# Altium schematic symbol library STM32F407_Board.SCHLIB: 166 symbols (part 2 of 3)
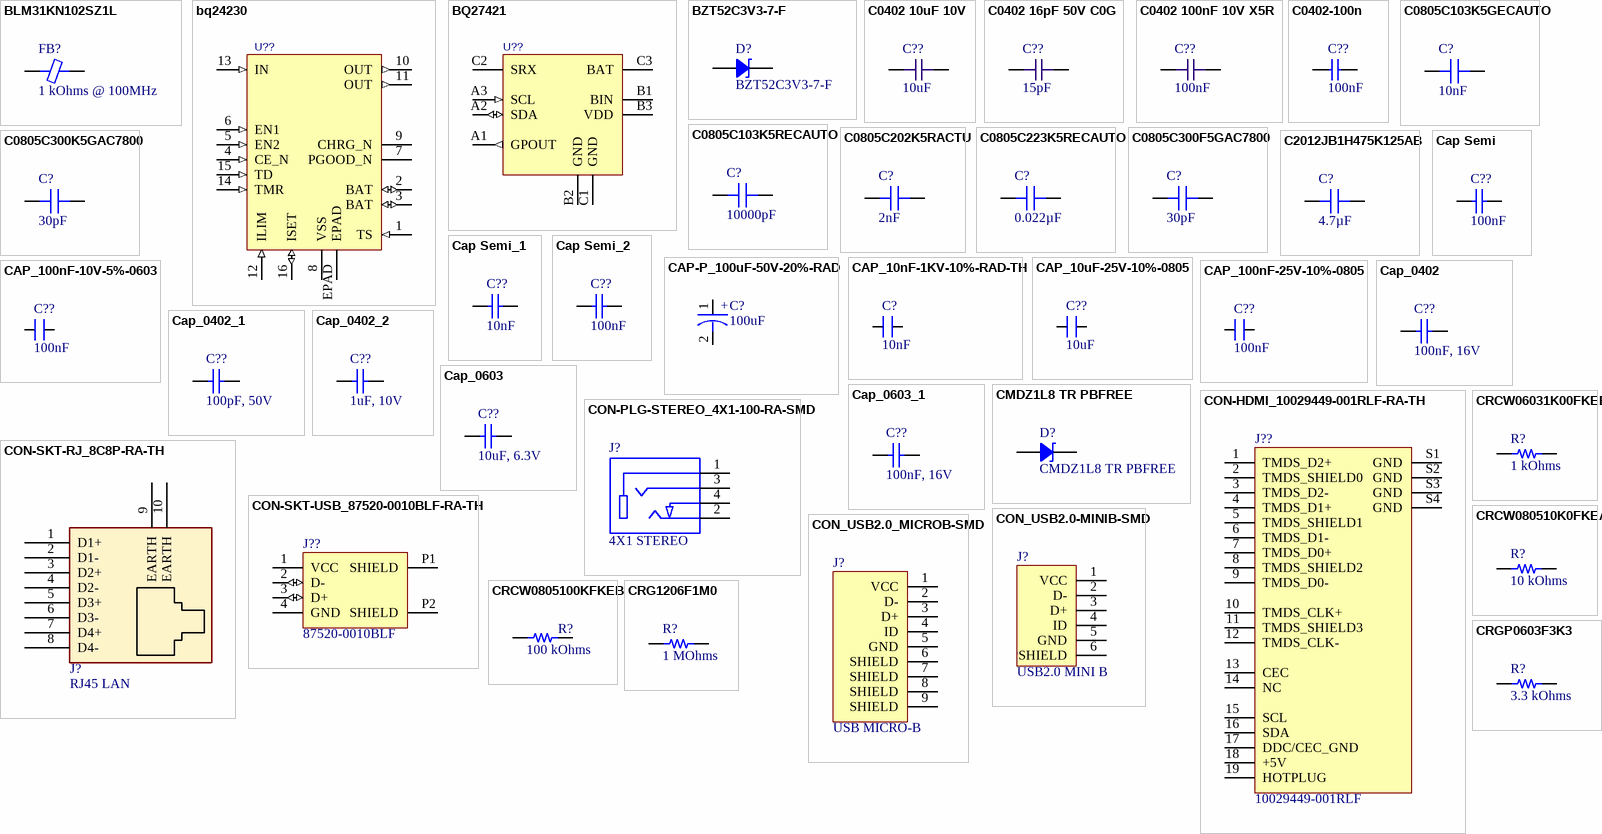
[diagram p5: symbols BLM31KN102SZ1L to CRGP0603F3K3]

## Cap Semi
designator C??, comment 100nF
0.10µF 50V Ceramic Capacitor X7R 0603; Manufacturer Part Number: CL10B104KB8SFNC; Value: 100nF; Digi-Key Part Number: 1276-1936-1-ND
footprint C1206 (Chip Capacitor, Body 3.2x1.6mm, IPC High Density)
footprint 0402 (Chip Capacitor, Body 1.0x0.5mm, IPC High Density)
footprint C2512 (Chip Capacitor, Body 2.54x1.27mm, IPC High Density)
footprint 0402 (Chip Capacitor, Body 1.0x0.5mm, IPC High Density)
footprint C1210 (Chip Capacitor, Body 3.2x2.5mm, IPC High Density)
simulation model CAP (Semiconductor Capacitor)
signal-integrity model Cap Semi
footprint 1608[0603] (Chip Capacitor, Body 1.6x0.8mm, IPC High Density)
footprint C0402
footprint c0603
pins: 1, 2

## Cap Semi_1
designator C??, comment 10nF
10000pF 50V Ceramic Capacitor X7R 0603; Manufacturer Part Number: CL10B103KB8NCNC; Published: 8-Jun-2000; LatestRevisionDate: 29-May-2009; LatestRevisionNote: IPC-7351 Footprint Added.; PackageReference: C1206; Publisher: Altium Limited; PackageDescription: Chip Capacitor; Value: 10nF; Digi-Key Part Number: 1276-1921-1-ND
footprint C0603
footprint 0402 (Chip Capacitor, Body 1.0x0.5mm, IPC High Density)
footprint C2512 (Chip Capacitor, Body 2.54x1.27mm, IPC High Density)
footprint 0402 (Chip Capacitor, Body 1.0x0.5mm, IPC High Density)
footprint C1210 (Chip Capacitor, Body 3.2x2.5mm, IPC High Density)
simulation model CAP (Semiconductor Capacitor)
signal-integrity model Cap Semi
footprint C0805
footprint C0402
pins: 1, 2

## Cap Semi_2
designator C??, comment 100nF
0.10µF 50V Ceramic Capacitor X7R 0603; Manufacturer Part Number: CL10B104KB8SFNC; Value: 100nF; Digi-Key Part Number: 1276-1936-1-ND
footprint C0603
footprint 0402 (Chip Capacitor, Body 1.0x0.5mm, IPC High Density)
footprint C2512 (Chip Capacitor, Body 2.54x1.27mm, IPC High Density)
footprint 0402 (Chip Capacitor, Body 1.0x0.5mm, IPC High Density)
footprint C1210 (Chip Capacitor, Body 3.2x2.5mm, IPC High Density)
simulation model CAP (Semiconductor Capacitor)
signal-integrity model Cap Semi
footprint C0805
footprint C0402
pins: 1, 2

## CAP-P_100uF-50V-20%-RAD
designator C?, comment 100uF
Cap, Aec-Q200, 100Uf, 50V, Alu Elec, Smd Rohs Compliant: Yes; Manufacturer: KEMET; Manufacturer Part Number: A768MS107M1HLAV024; Pricing 1: 2500=1.10647 (USD); Supplier 1: Digi-Key; Supplier Part Number 1: C317C622F5G5TA7301-ND
footprint ACAP_P305_D393_H393_RAD (Aluminium Capacitor)
pins: 1, 2
text: +

## CAP_10nF-1KV-10%-RAD-TH
designator C?, comment 10nF
Cap Ceramic 0.001uF 1000V X7R 10% Radial 5mm 125°C Bulk; Manufacturer: Murata; Manufacturer Part Number: RDER73A102K2K1H03B; Capacitance: 1nF; Voltage Rating: 1kV; Lead/Base Style: Formed Leads; Lead Diameter: 0.5mm; Supplier 1: Digi-Key; RoHS: Yes; Category: Ceramic Capacitors; Stock 1: 6888; Pricing 1: 1=0.75000, 10=0.53200, 50=0.40220, 100=0.35030, 500=0.25946, 1000=0.22055, 2500=0.20758, 5000=0.19460 (USD); Mount: Through Hole; Case/Package: Radial; Min Operating Temperature: -55°C; Max Operating Temperature: 125°C; Package Quantity: 500; Packaging: Bulk; Tolerance: 10%; Dielectric: X7R; Termination: Radial; Resistor Type: Ceramic; Voltage Rating (DC): 1kV; Length: 5.5mm; Width: 0.124inch; Height: 4mm; Height - Seated (Max): 0.157inch; Lead Pitch: 0.197inch; Lead Free: Lead Free; RoHS Compliant: Yes; ComponentLink1URL: https://datasheet.ciiva.com/29539/product-29539129.pdf?src-supplier=Digi-Key; ComponentLink1Description: https://datasheet.ciiva.com/29539/product-29539129.pdf?src-supplier=Digi-Key; Supplier Part Number 1: 490-8942-ND
footprint CAP_P196_102X287_H332_RAD_TH
pins: 1, 2

## CAP_10uF-25V-10%-0805
designator C??, comment 10uF
10µF ±10% 25V Ceramic Capacitor X5R 0805 (2012 Metric); Manufacturer: Murata Electronics; Manufacturer Part Number: GRM21BR61E106KA73K; Case/Package: 0805; Supplier-1: Digikey
footprint CAP_0805 (Ceramic Capacitor)
pins: 1, 2

## CAP_100nF-10V-5%-0603
designator C??, comment 100nF
0.1µF ±10% 10V Ceramic Capacitor X7R 0603 (1608 Metric); Manufacturer: Yageo; Manufacturer Part Number: CC0603KRX7R6BB104; Case/Package: 0603; Supplier-1: Digikey
footprint CAP_0603 (Capacitor)
pins: 1, 2

## CAP_100nF-25V-10%-0805
designator C??, comment 100nF
0.1µF ±10% 25V Ceramic Capacitor X7R 0805 (2012 Metric); Manufacturer: Yageo; Manufacturer Part Number: CC0805KRX7R8BB104; Case/Package: 0805; Supplier-1: Digikey
footprint CAP_0805 (Ceramic Capacitor)
pins: 1, 2

## Cap_0402
designator C??, comment 100nF, 16V
Manufacturer: Murata Electronics; Manufacturer Part Number: GRM155R71C104KA88D; Part Description: CAP CER 0.1UF 16V X7R 0402; Tolerance: 10 %; Type: General Purpose MLCC; Capacitance: 0.1 uF; Case Length: 1 mm; Dielectric: X7R; Case Height: 0.5 mm; Temperature Coefficient / Code: +/- 15 %; Value: 100nF, 16V; Supplier 1: Mouser; Supplier Part Number 1: 81-GRM155R71C104KA88; Case Code - in: 0402; RoHS: RoHS Compliant; Operating Temperature Range: - 55 C to + 125 C; Series: GRM; Termination Style: SMD/SMT; Package / Case: 0402 (1005 metric); Voltage Rating DC: 16 V; Maximum Operating Temperature: + 125 C; Case Code - mm: 1005; Minimum Operating Temperature: - 55 C; Product Category: Low & Medium Capacitance SMD Ceramic Chip Capacitors; Packaging: Reel; Product: General Type MLCCs; Category: Multilayer Ceramic Capacitors MLCC - SMD/SMT; Brand: Murata Electronics; Case Width: 0.5 mm; RoHS - Mouser: Y; Standard Pack Qty: 10000; Minimum Order Quantity: 1; Reeling: True; Manufacturer Part Number 1: GRM155R71C104KA88D
footprint CAP0402 (Chip Capacitor, Body 1.0x0.5mm, 0402, IPC Medium Density)
pins: 1, 2

## Cap_0402_1
designator C??, comment 100pF, 50V
Manufacturer Part Number 1: CC0402JRNPO9BN101; Manufacturer: Yageo; Part Description: 100pF ±5% 50V C0G, NP0 Ceramic Capacitor -55°C ~ 125°C Surface Mount, MLCC 0402 (1005 Metric) 0.039" L x 0.020" W (1.00mm x 0.50mm); Tolerance: ±5%; Temperature Coefficient: C0G, NP0; Value: 100pF, 50V; Capacitance: 100pF; Thickness (Max): 0.022" (0.55mm); Size / Dimension: 0.039" L x 0.020" W (1.00mm x 0.50mm); RoHS: RoHS Compliant; Ratings: -; Package / Case: 0402 (1005 Metric); Mounting Type: Surface Mount, MLCC; Height - Seated (Max): -; Features: -; Lead Spacing: -; Voltage - Rated: 50V; Operating Temperature: -55°C ~ 125°C; Packaging: Cut Tape (CT); Applications: General Purpose; Lead Style: -; Supplier 1: Digi-Key; Category: Capacitors; Supplier Part Number 1: 311-1024-1-ND
footprint CAP0402 (Chip Capacitor, Body 1.0x0.5mm, 0402, IPC Medium Density)
pins: 1, 2

## Cap_0402_2
designator C??, comment 1uF, 10V
CAP CER 1UF 10V X5R 0402; Manufacturer: Yageo; Part Description: 1µF 10V Ceramic Capacitor X5R 0402 (1005 Metric) 0.039" L x 0.020" W (1.00mm x 0.50mm); Manufacturer Part Number 1: CC0402MRX5R6BB105; Notification: Current market demand for these product types have resulted in fluctuating and extending lead times. Lead times may differ.; Tolerance: ±20%; Value: 1uF, 10V; Supplier 1: Digi-Key; Supplier Part Number 1: 311-1732-1-ND; RoHS: RoHS Compliant; Applications: General Purpose; Category: Capacitors; ComponentLink1Description: http://www.yageo.com/documents/recent/UPY-GPHC_X5R_4V-to-50V_25.pdf; ComponentLink1URL: http://www.yageo.com/documents/recent/UPY-GPHC_X5R_4V-to-50V_25.pdf; Failure Rate: -; Features: -; Height - Seated (Max): -; Lead Spacing: -; Lead Style: -; Mounting Type: Surface Mount, MLCC; Operating Temperature: -55°C ~ 85°C; Package / Case: 0402 (1005 Metric); Packaging: Cut Tape (CT); Part Status: Active; Pricing 1: 1=0.22, 10=0.156, 100=0.0732, 500=0.0513, 1000=0.04248, 2500=0.03953, 5000=0.03617 (USD); Ratings: -; Size / Dimension: 0.039" L x 0.020" W (1.00mm x 0.50mm); Stock 1: 69600; Temperature Coefficient: X5R; Thickness (Max): 0.022" (0.55mm); Voltage - Rated: 10V
footprint CAP0402 (Chip Capacitor, Body 1.0x0.5mm, 0402, IPC Medium Density)
pins: 1, 2

## Cap_0603
designator C??, comment 10uF, 6.3V
Manufacturer Part Number 1: CC0603MRX5R5BB106; Manufacturer: Yageo; Part Description: 10µF ±20% 6.3V X5R Ceramic Capacitor -55°C ~ 85°C Surface Mount, MLCC 0603 (1608 Metric) 0.063" L x 0.031" W (1.60mm x 0.80mm); Capacitance: 10µF; Tolerance: ±20%; Supplier 1: Digi-Key; Supplier Part Number 1: 311-1448-2-ND; Package / Case: 0603 (1608 Metric); Category: Capacitors; Voltage - Rated: 6.3V; Value: 10uF, 6.3V
footprint CAP0603 (Chip Capacitor, Body 1.6x0.8mm, 0603, IPC Medium Density)
pins: 1, 2

## Cap_0603_1
designator C??, comment 100nF, 16V
Manufacturer Part Number 1: GRM155R71C104KA88D; Part Description: CAP CER 0.1UF 16V X7R 0402; Brand: Murata Electronics; Tolerance: 10 %; Type: General Purpose MLCC; Capacitance: 0.1 uF; Temperature Coefficient / Code: +/- 15 %; Case Height: 0.5 mm; Case Length: 1 mm; Dielectric: X7R; Supplier 1: Mouser; Supplier Part Number 1: 81-GRM155R71C104KA88; Case Code - in: 0402; Manufacturer: Murata Electronics; Category: Multilayer Ceramic Capacitors MLCC - SMD/SMT; Voltage Rating DC: 16 V; Value: 100nF, 16V; Manufacturer Part Number: GRM155R71C104KA88D; Case Code - mm: 1005; Case Width: 0.5 mm; Maximum Operating Temperature: + 125 C; Minimum Operating Temperature: - 55 C; Minimum Order Quantity: 1; Operating Temperature Range: - 55 C to + 125 C; Package / Case: 0402 (1005 metric); Packaging: Reel; Product: General Type MLCCs; Product Category: Low & Medium Capacitance SMD Ceramic Chip Capacitors; Reeling: True; RoHS - Mouser: Y; RoHS: RoHS Compliant; Series: GRM; Standard Pack Qty: 10000; Termination Style: SMD/SMT
footprint CAP0402 (Chip Capacitor, Body 1.0x0.5mm, 0402, IPC Medium Density)
pins: 1, 2

## CMDZ1L8 TR PBFREE
designator D?
DIODE ZENER 1.8V 250MW SOD323; Manufacturer: Central Semiconductor Corp; Current - Reverse Leakage @ Vr: 25µA @ 1V; Impedance (Max) (Zzt): 1.2 kOhms; Tolerance: ±5%; Voltage - Forward (Vf) (Max) @ If: 900mV @ 10mA; Part Number: CMDZ1L8 TR PBFREE; ComponentLink1Description: Datasheet; ComponentLink1URL: https://my.centralsemi.com/get_document.php?cmp=1&mergetype=pd&mergepath=pd&pdf_id=CMDZ5L1-36L.PDF; ComponentLink2Description: DigiKey Link; ComponentLink2URL: http://digikey.com/product-detail/en/central-semiconductor-corp/CMDZ1L8-TR-PBFREE/1514-CMDZ1L8TRPBFREECT-ND/5324426; LastUpdated: 9/2/2020 01:27:30; Lifecycle Status: Active; Minimum Order: 1; Mounting Type: Surface Mount; Operating Temperature: -65°C ~ 150°C; Package / Case: SC-76, SOD-323; Packaging: TapeAndReel; PartId: 3515; Part Status: Active; Power - Max: 250mW; Price: 0.10; Series: -; Supplier 1: DigiKey; Supplier Part Number 1: 1514-CMDZ1L8TRPBFREECT-ND; Supplier Device Package: SOD-323; Voltage - Zener (Nom) (Vz): 1.8V
footprint SOD323
pins: 1, 2

## CON-HDMI_10029449-001RLF-RA-TH
designator J??, comment 10029449-001RLF
HDMI HDMI 1.4 Receptacle Connector 19 Position Surface Mount, Right Angle; Through Hole; Manufacturer: Amphenol ICC (FCI); Manufacturer Part Number: 10029449-001RLF; Case/Package: TH; Supplier-1: Digikey
footprint CON19_19.6_10029449-001RLF_TH_RA (HDMI Connector)
pins: 1 TMDS_D2+, 2 TMDS_SHIELD0, 3 TMDS_D2-, 4 TMDS_D1+, 5 TMDS_SHIELD1, 6 TMDS_D1-, 7 TMDS_D0+, 8 TMDS_SHIELD2, 9 TMDS_D0-, 10 TMDS_CLK+, 11 TMDS_SHIELD3, 12 TMDS_CLK-, 13 CEC, 14 NC, 15 SCL, 16 SDA, 17 DDC/CEC_GND, 18 +5V, 19 HOTPLUG, S1 GND, S2 GND, S3 GND, S4 GND

## CON-PLG-STEREO_4X1-100-RA-SMD
designator J?, comment 4X1 STEREO
2.50mm (0.094", 3/32", Sub Mini, Miniature) - Headphone Phone Jack Stereo (4 Conductor, TRRS) Connector Solder; Manufacturer: CUI Devices; Manufacturer Part Number: SJ-2504A-SMT-TR; Alternate Part Number-1: NA; Case/Package: SMD; Supplier Part Number-1: CP-SJ-2504A-SMT-CT-ND - Cut Tape (CT); Supplier-1: Digikey
footprint CON_SJ-2504A-SMT-TR_SMD
pins: 1, 2, 3, 4

## CON-SKT-RJ_8C8P-RA-TH
designator J?, comment RJ45 LAN
8 Pins, 2 Row 2.54mm Pitch, right angle Connector, male; Manufacturer: Assmann; Manufacturer Part Number: A-2004-2-4-LPS-N-R; Alternate Part Number-1: NA; Case/Package: TH-CON; Supplier-1: SP ROAD; Supplier Part Number-1: A-2004-2-4-LPS-N-R
footprint CON10_P106_RJ45_TH_ST (LAN Connector)
pins: 1 D1+, 2 D1-, 3 D2+, 4 D2-, 5 D3+, 6 D3-, 7 D4+, 8 D4-, 9 EARTH, 10 EARTH

## CON-SKT-USB_87520-0010BLF-RA-TH
designator J??, comment 87520-0010BLF
USB-A (USB TYPE-A) USB 2.0 Receptacle Connector 4 Position Through Hole, Right Angle; Manufacturer: Amphenol ICC (FCI); Manufacturer Part Number: 87520-0010BLF; Case/Package: TH; Supplier-1: Digikey
footprint CON4_614004134726_TH
pins: 1 VCC (power), 2 D- (io), 3 D+ (io), 4 GND (power), P1 SHIELD, P2 SHIELD

## CON_USB2.0-MINIB-SMD
designator J?, comment USB2.0 MINI B
Conn Mini USB 2.0 Type B RCP 5 POS 0.8mm Solder RA SMD 5 Terminal 1 Port; Manufacturer: EDAC; Manufacturer Part Number: 690-005-299-043; Supplier 1: Digi-Key; Category: USB Connectors; Pricing 1: 1=0.65000, 10=0.60600, 25=0.54560, 50=0.48480, 100=0.46460, 250=0.42420, 500=0.40400 (USD); Mount: Surface Mount,Horizontal; Pitch: 0.8mm; ComponentLink1URL: https://datasheet.ciiva.com/29660/690-005-299-043-29660027.pdf?src-supplier=Digi-Key; ComponentLink1Description: https://datasheet.ciiva.com/29660/690-005-299-043-29660027.pdf?src-supplier=Digi-Key; ComponentLink2URL: https://datasheet.ciiva.com/30246/690-005-299-043-30246515.pdf?src-supplier=Onlinecomponents.com; ComponentLink2Description: https://datasheet.ciiva.com/30246/690-005-299-043-30246515.pdf?src-supplier=Onlinecomponents.com; ComponentLink3URL: https://datasheet.ciiva.com/29660/690-005-299-043-29660028.pdf?src-supplier=Digi-Key; ComponentLink3Description: https://datasheet.ciiva.com/29660/690-005-299-043-29660028.pdf?src-supplier=Digi-Key; ComponentLink4URL: https://datasheet.ciiva.com/29660/690-005-299-043-29660029.pdf?src-supplier=Digi-Key; ComponentLink4Description: https://datasheet.ciiva.com/29660/690-005-299-043-29660029.pdf?src-supplier=Digi-Key
footprint CON_690-005-299-043 (Footprint not found)
pins: 1 VCC, 2 D-, 3 D+, 4 ID, 5 GND, 6 SHIELD

## CON_USB2.0_MICROB-SMD
designator J?, comment USB MICRO-B
USB - micro B USB 2.0 Receptacle Connector 5 Position Surface Mount, Right Angle; Manufacturer: ICC; Manufacturer Part Number: 10118192-0001LF; Alternate Part Number-1: NA; Case/Package: USB MICRO-B SMD; Supplier-1: SUNROM; Supplier Part Number-1: MICRO USB
footprint CON_10118192-0001LF_SMD (Footprint not found)
pins: 1 VCC, 2 D-, 3 D+, 4 ID, 5 GND, 6 SHIELD, 7 SHIELD, 8 SHIELD, 9 SHIELD

## CRCW06031K00FKEB
designator R?, comment 1 kOhms
RES SMD 1K OHM 1% 1/10W 0603; Part Number: CRCW06031K00FKEB; Manufacturer: Vishay Dale; Power (Watts): 0.1W, 1/10W; Temperature Coefficient: ±100ppm/°C; Value: 1 kOhms; ComponentLink1Description: Datasheet; ComponentLink1URL: http://www.vishay.com/docs/20035/dcrcwe3.pdf; ComponentLink2Description: DigiKey Link; ComponentLink2URL: http://digikey.com/product-detail/en/vishay-dale/CRCW06031K00FKEB/541-2985-1-ND/6073628; Composition: Thick Film; Device Package: 0603 (1608 Metric); Features: Automotive AEC-Q200; Height - Seated (Max): 0.020" (0.50mm); LastUpdated: 9/2/2020 01:10:24; Lifecycle Status: Active; Minimum Order: 1; Number of Terminations: 2; Operating Temperature: -55°C ~ 155°C; Package / Case: 0603 (1608 Metric); Packaging: CutTape; PartId: 5123; Part Status: Active; Price: 0.10; Ratings: AEC-Q200; Resistance: 1 kOhms; Series: CRCW; Size / Dimension: 0.063" L x 0.033" W (1.60mm x 0.85mm); Supplier 1: DigiKey; Supplier Part Number 1: 541-2985-1-ND; Supplier Device Package: 0603; Tolerance: ±1%
footprint RES 0603_1608
pins: 1, 2

## CRCW080510K0FKEA
designator R?, comment 10 kOhms
RES SMD 10K OHM 1% 1/8W 0805; Part Number: CRCW080510K0FKEA; Manufacturer: Vishay Dale; Power (Watts): 0.125W, 1/8W; Temperature Coefficient: ±100ppm/°C; Value: 10 kOhms; ComponentLink1Description: Datasheet; ComponentLink1URL: http://www.vishay.com/docs/20035/dcrcwe3.pdf; ComponentLink2Description: DigiKey Link; ComponentLink2URL: http://digikey.com/product-detail/en/vishay-dale/CRCW080510K0FKEA/541-10.0KCCT-ND/1180897; Composition: Thick Film; Device Package: 0805 (2012 Metric); Features: Automotive AEC-Q200; Height - Seated (Max): 0.020" (0.50mm); LastUpdated: 02/09/2020 01:15:23; Lifecycle Status: Active; Minimum Order: 1; Number of Terminations: 2; Operating Temperature: -55°C ~ 155°C; Package / Case: 0805 (2012 Metric); Packaging: TapeAndReel; PartId: 28101; Part Status: Active; Price: 0.01; Ratings: AEC-Q200; Resistance: 10 kOhms; Series: CRCW; Size / Dimension: 0.079" L x 0.049" W (2.00mm x 1.25mm); Supplier 1: DigiKey; Supplier Part Number 1: 541-10.0KCCT-ND; Supplier Device Package: 0805; Tolerance: ±1%
footprint RES 0805_2012
pins: 1, 2

## CRCW0805100KFKEB
designator R?, comment 100 kOhms
RES SMD 100K OHM 1% 1/8W 0805; Part Number: CRCW0805100KFKEB; Manufacturer: Vishay Dale; Power (Watts): 0.125W, 1/8W; Temperature Coefficient: ±100ppm/°C; Value: 100 kOhms; ComponentLink1Description: Datasheet; ComponentLink1URL: http://www.vishay.com/docs/20035/dcrcwe3.pdf; ComponentLink2Description: DigiKey Link; ComponentLink2URL: http://digikey.com/product-detail/en/vishay-dale/CRCW0805100KFKEB/541-4318-1-ND/8565931; Composition: Thick Film; Device Package: 0805 (2012 Metric); Features: Automotive AEC-Q200; Height - Seated (Max): 0.020" (0.50mm); LastUpdated: 02/09/2020 01:15:19; Lifecycle Status: Active; Minimum Order: 1; Number of Terminations: 2; Operating Temperature: -55°C ~ 155°C; Package / Case: 0805 (2012 Metric); Packaging: TapeAndReel; PartId: 30012; Part Status: Active; Price: 0.01; Ratings: AEC-Q200; Resistance: 100 kOhms; Series: CRCW; Size / Dimension: 0.079" L x 0.049" W (2.00mm x 1.25mm); Supplier 1: DigiKey; Supplier Part Number 1: 541-4318-1-ND; Supplier Device Package: 0805; Tolerance: ±1%
footprint RES 0805_2012
pins: 1, 2

## CRG1206F1M0
designator R?, comment 1 MOhms
RES SMD 1M OHM 1% 1/4W 1206; Part Number: CRG1206F1M0; Manufacturer: TE Connectivity Passive Product; Power (Watts): 0.25W, 1/4W; Temperature Coefficient: ±100ppm/°C; ComponentLink1Description: Datasheet; ComponentLink1URL: https://www.te.com/commerce/DocumentDelivery/DDEController?Action=srchrtrv&DocNm=1773204&DocType=DS&DocLang=English; ComponentLink2Description: DigiKey Link; ComponentLink2URL: http://digikey.com/product-detail/en/te-connectivity-passive-product/CRG1206F1M0/A106072CT-ND/3477725; Composition: Thick Film; Device Package: 1206 (3216 Metric); Height - Seated (Max): 0.026" (0.65mm); LastUpdated: 02/09/2020 01:13:10; Lifecycle Status: Active; Minimum Order: 1; Number of Terminations: 2; Operating Temperature: -55°C ~ 155°C; Package / Case: 1206 (3216 Metric); Packaging: TapeAndReel; PartId: 26984; Part Status: Active; Price: 0.01; Resistance: 1 MOhms; Series: CRG, Neohm; Size / Dimension: 0.122" L x 0.061" W (3.10mm x 1.55mm); Supplier 1: DigiKey; Supplier Part Number 1: A106072CT-ND; Supplier Device Package: 1206; Tolerance: ±1%; Value: 1 MOhms
footprint RES 1206_3216
pins: 1, 2

## CRGP0603F3K3
designator R?, comment 3.3 kOhms
CRGP 0603 3K3 1%; Part Number: CRGP0603F3K3; Manufacturer: TE Connectivity Passive Product; Power (Watts): 0.25W, 1/4W; Temperature Coefficient: ±100ppm/°C; Value: 3.3 kOhms; ComponentLink1Description: Datasheet; ComponentLink1URL: https://www.te.com/commerce/DocumentDelivery/DDEController?Action=srchrtrv&DocNm=9-1773463-9&DocType=DS&DocLang=English; ComponentLink2Description: DigiKey Link; ComponentLink2URL: http://digikey.com/product-detail/en/te-connectivity-passive-product/CRGP0603F3K3/A130422CT-ND/8578254; Composition: Thick Film; Device Package: 0603 (1608 Metric); Features: Pulse Withstanding; Height - Seated (Max): 0.022" (0.55mm); LastUpdated: 02/09/2020 01:10:24; Lifecycle Status: Active; Minimum Order: 1; Number of Terminations: 2; Operating Temperature: -55°C ~ 155°C; Package / Case: 0603 (1608 Metric); Packaging: TapeAndReel; PartId: 5037; Part Status: Active; Price: 0.02; Resistance: 3.3 kOhms; Series: CRGP; Size / Dimension: 0.063" L x 0.031" W (1.60mm x 0.80mm); Supplier 1: DigiKey; Supplier Part Number 1: A130422CT-ND; Supplier Device Package: 0603; Tolerance: ±1%
footprint RES 0603_1608
pins: 1, 2

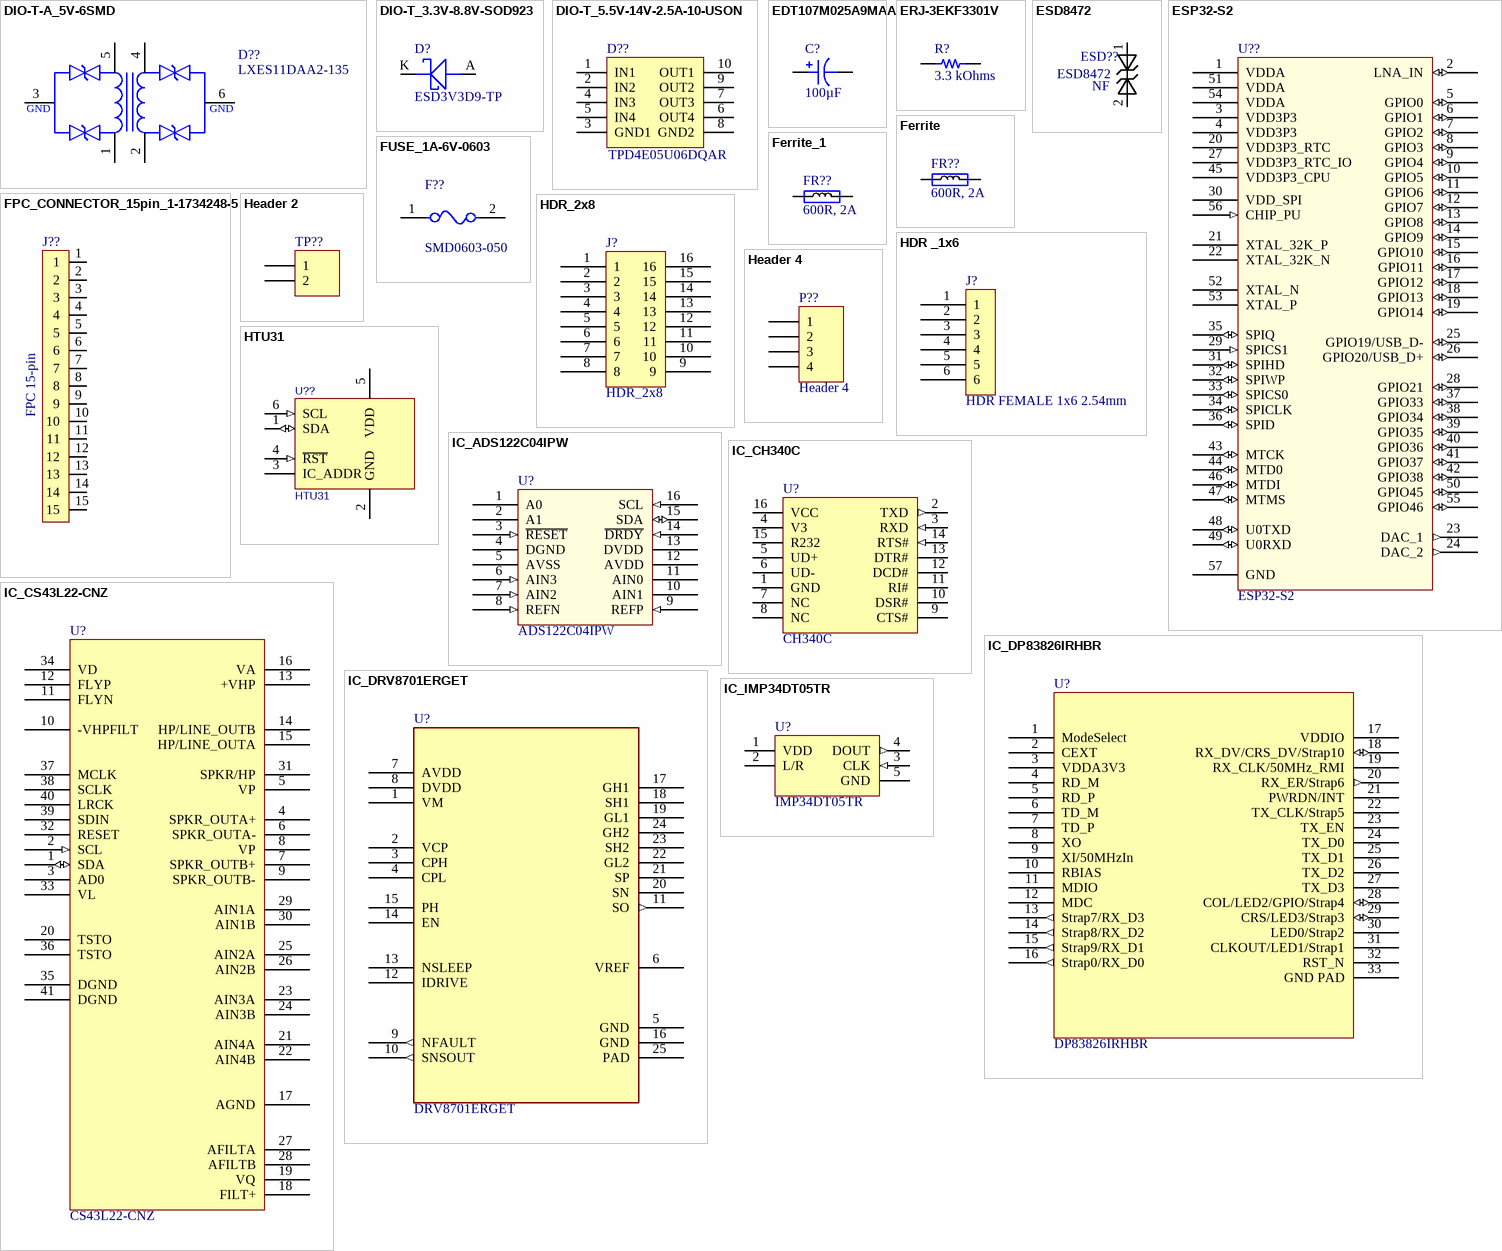
[diagram p2: symbols DIO-T-A_5V-6SMD to IC_IMP34DT05TR]

## DIO-T-A_5V-6SMD
designator D??, comment LXES11DAA2-135
Clamp Ipp Tvs Diode Surface Mount 10-SMD; Manufacturer: Murata Electronics; Manufacturer Part Number: LXES11DAA2-135; Case/Package: SMD-6; Supplier-1: Digikey
footprint DIO_LXES11D_SMD (TVS Diode)
pins: 1, 2, 3 5, 4, 5, 6
text: GND

## DIO-T_3.3V-8.8V-SOD923
designator D?, comment ESD3V3D9-TP
TVS DIODE 3.3V 8.8V SOD923; Manufacturer: MCC; Capacitance: 35pF; Current Rating: 10mA; Number of Unidirectional Channels: 1; Min Breakdown Voltage: 5V; Clamping Voltage: 5.8V; Peak Pulse Power: 100W; Power Line Protection: No; Peak Pulse Current: 5A; Diode Type: ZENER; Supplier 1: Digi-Key; Manufacturer Part Number: ESD3V3D9-TP; RoHS: Yes; Category: TVS Diodes; Stock 1: 2991; Pricing 1: 1=0.29000, 10=0.23600, 100=0.12540, 500=0.08250, 1000=0.05610, 2000=0.05060 (USD); Mount: Surface Mount; Min Operating Temperature: -55°C; Max Operating Temperature: 150°C; Package Quantity: 1; Packaging: Tape and Reel; Operating Supply Voltage: 3.3V; Reverse Standoff Voltage: 3.3V; Breakdown Voltage: 5V; Number of Channels: 1; Max Power Dissipation: 100W; Termination: SMD/SMT; Resistor Type: Zener; Series: -; Lead Free: Lead Free; RoHS Compliant: Yes; ComponentLink1URL: https://datasheet.ciiva.com/333/esd3v3d9sod-923-333173.pdf?src-supplier=Digi-Key; ComponentLink1Description: https://datasheet.ciiva.com/333/esd3v3d9sod-923-333173.pdf?src-supplier=Digi-Key; ComponentLink2URL: https://datasheet.ciiva.com/4479/esd3v3d9sod-923-36448-4479598.pdf?src-supplier=Mouser; ComponentLink2Description: https://datasheet.ciiva.com/4479/esd3v3d9sod-923-36448-4479598.pdf?src-supplier=Mouser; ComponentLink3URL: https://datasheet.ciiva.com/333/esd3v3d9sod-923-333174.pdf?src-supplier=Digi-Key; ComponentLink3Description: https://datasheet.ciiva.com/333/esd3v3d9sod-923-333174.pdf?src-supplier=Digi-Key; ComponentLink4URL: https://datasheet.ciiva.com/333/esd3v3d9sod-923-333175.pdf?src-supplier=Digi-Key; ComponentLink4Description: https://datasheet.ciiva.com/333/esd3v3d9sod-923-333175.pdf?src-supplier=Digi-Key; Supplier Part Number 1: ESD3V3D9-TPMSCT-ND
footprint DIO_SOD-923
pins: A, K

## DIO-T_5.5V-14V-2.5A-10-USON
designator D??, comment TPD4E05U06DQAR
14V Clamp 2.5A (8/20µs) Ipp Tvs Diode Surface Mount 10-USON (2.5x1); Manufacturer: Texas Instruments; Manufacturer Part Number: TPD4E05U06DQAR; Case/Package: 10-USON; Supplier-1: Digikey
footprint DIO_USON-10_SMD (ESD Diode)
pins: 1 IN1, 2 IN2, 3 GND1, 4 IN3, 5 IN4, 6 OUT4, 7 OUT3, 8 GND2, 9 OUT2, 10 OUT1

## EDT107M025A9MAA
designator C?, comment 100µF
CAP ALUM SMD 125C 100UF 25VDC; Part Number: EDT107M025A9MAA; Manufacturer: KEMET; Lifetime @ Temp.: 2000 Hrs @ 125°C; Polarization: Polar; Ripple Current @ High Frequency: 156mA @ 10kHz; Ripple Current @ Low Frequency: 130mA @ 120Hz; Surface Mount Land Size: 0.327" L x 0.327" W (8.30mm x 8.30mm); Tolerance: ±20%; Voltage - Rated: 25V; Applications: General Purpose; Capacitance: 100µF; ComponentLink1Description: Datasheet; ComponentLink1URL: https://api.kemet.com/component-edge/download/datasheet/EDT107M025A9MAA.pdf; ComponentLink2Description: DigiKey Link; ComponentLink2URL: http://digikey.com/product-detail/en/kemet/EDT107M025A9MAA/399-18156-1-ND/9354357; Device Package: Radial, Can - SMD; Height - Seated (Max): 0.413" (10.50mm); LastUpdated: 02/09/2020 01:25:14; Lifecycle Status: Active; Minimum Order: 1; Mounting Type: Surface Mount; Operating Temperature: -40°C ~ 125°C; Package / Case: Radial, Can - SMD; Packaging: TapeAndReel; PartId: 7637; Part Status: Active; Price: 0.23; Series: EDT; Size / Dimension: 0.315" Dia (8.00mm); Supplier 1: DigiKey; Supplier Part Number 1: 399-18156-1-ND; Value: 100µF
footprint CAP ALSMD 8.3MM H10.5MM
pins: 1, 2

## ERJ-3EKF3301V
designator R?, comment 3.3 kOhms
RES SMD 3.3K OHM 1% 1/10W 0603; Part Number: ERJ-3EKF3301V; Manufacturer: Panasonic Electronic Components; Power (Watts): 0.1W, 1/10W; Temperature Coefficient: ±100ppm/°C; Value: 3.3 kOhms; ComponentLink1Description: Datasheet; ComponentLink1URL: https://industrial.panasonic.com/cdbs/www-data/pdf/RDA0000/AOA0000C304.pdf; ComponentLink2Description: DigiKey Link; ComponentLink2URL: http://digikey.com/product-detail/en/panasonic-electronic-components/ERJ-3EKF3301V/P3.30KHCT-ND/1746762; Composition: Thick Film; Device Package: 0603 (1608 Metric); Features: Automotive AEC-Q200; Height - Seated (Max): 0.022" (0.55mm); LastUpdated: 9/2/2020 01:10:23; Lifecycle Status: Active; Minimum Order: 1; Number of Terminations: 2; Operating Temperature: -55°C ~ 155°C; Package / Case: 0603 (1608 Metric); Packaging: TapeAndReel; PartId: 5657; Part Status: Active; Price: 0.01; Ratings: AEC-Q200; Resistance: 3.3 kOhms; Series: ERJ; Size / Dimension: 0.063" L x 0.031" W (1.60mm x 0.80mm); Supplier 1: DigiKey; Supplier Part Number 1: P3.30KHCT-ND; Supplier Device Package: 0603; Tolerance: ±1%
footprint RES 0603_1608
pins: 1, 2

## ESD8472
designator ESD??  Assembly Info: NF
Manufacturer: ON Semiconductor; Manufacturer Part Number 1: ESD8472MUT5G; Part Description: TVS DIODE 5.3VWM 14VC X3DFN2; Voltage - Reverse Standoff (Typ): 5.3V (Max); Voltage - Breakdown (Min): 7V; Voltage - Clamping (Max) @ Ipp: 14V; Current - Peak Pulse (10/1000µs): 3A (8/20µs); Power Line Protection: No; Capacitance @ Frequency: 0.2pF @ 1MHz; Supplier 1: Digi-Key; RoHS: RoHS Compliant; Category: Circuit Protection; Stock 1: 2295; Pricing 1: 1=0.39, 10=0.315, 100=0.2142, 500=0.16068, 1000=0.12051 (USD); Packaging: Cut Tape (CT); Part Status: Active; Type: Zener; Power - Peak Pulse: -; Applications: Automotive, RF Antenna; Operating Temperature: -55°C ~ 150°C (TJ); Mounting Type: Surface Mount; Package / Case: 2-XFDFN; Supplier Device Package: 2-X3DFN (0.62x0.32); ComponentLink1URL: http://www.onsemi.com/pub/Collateral/ESD8472-D.PDF; ComponentLink1Description: http://www.onsemi.com/pub/Collateral/ESD8472-D.PDF; Supplier Part Number 1: ESD8472MUT5GOSCT-ND
footprint ESD8472_X3DFN2
pins: 1, 2

## ESP32-S2
designator U??
WiFi 802.11b/g/n Transceiver Module 2.4GHz QFN-56; Supplier 1: Digi-Key; Supplier 2: Mouser; Supplier Part Number 1: 1965-ESP32-S2CT-ND; Supplier Part Number 2: 356-ESP32-S2; Supplier 3: LCSC; Supplier Part Number 3: C529594
footprint QFN56 (QFN, 56-Leads, Body 7.00x7.00mm, Pitch 0.40mm, Thermal Pad 4.00x4.00mm, IPC Medium Density)
pins: 1 VDDA (power), 2 LNA_IN (io), 3 VDD3P3 (power), 4 VDD3P3 (power), 5 GPIO0 (io), 6 GPIO1 (io), 7 GPIO2 (io), 8 GPIO3 (io), 9 GPIO4 (io), 10 GPIO5 (io), 11 GPIO6 (io), 12 GPIO7 (io), 13 GPIO8 (io), 14 GPIO9 (io), 15 GPIO10 (io), 16 GPIO11 (io), 17 GPIO12 (io), 18 GPIO13 (io), 19 GPIO14 (io), 20 VDD3P3_RTC (power), 21 XTAL_32K_P, 22 XTAL_32K_N, 23 DAC_1 (out), 24 DAC_2 (out), 25 GPIO19/USB_D- (io), 26 GPIO20/USB_D+ (io), 27 VDD3P3_RTC_IO (power), 28 GPIO21 (io), 29 SPICS1 (in), 30 VDD_SPI (power), 31 SPIHD (io), 32 SPIWP (io), 33 SPICS0 (io), 34 SPICLK (io), 35 SPIQ (io), 36 SPID (io), 37 GPIO33 (io), 38 GPIO34 (io), 39 GPIO35 (io), 40 GPIO36 (io), 41 GPIO37 (io), 42 GPIO38 (io), 43 MTCK (io), 44 MTD0 (io), 45 VDD3P3_CPU (power), 46 MTDI (io), 47 MTMS (io), 48 U0TXD (io), 49 U0RXD (io), 50 GPIO45 (io), 51 VDDA (power), 52 XTAL_N, 53 XTAL_P, 54 VDDA (power), 55 GPIO46 (io), 56 CHIP_PU (in), 57 GND (power)

## Ferrite
designator FR??, comment 600R, 2A
Manufacturer Part Number 1: MPZ2012S601AT000; Manufacturer: TDK Corporation; Part Description: FERRITE BEAD 600 OHM 0805 1LN; DC Resistance (DCR): 100 mOhm Max; Filter Type: Differential Mode - Single; Impedance @ Frequency: 600 Ohm @ 100MHz; Supplier 1: Digi-Key; Supplier Part Number 1: 445-2206-2-ND; Value: 600R, 2A; Category: Filters; Current Rating: 2A; Height (Max): 0.041" (1.05mm); Mounting Type: Surface Mount; Package / Case: 0805 (2012 Metric); Packaging: Tape & Reel (TR); RoHS: RoHS Compliant; Size / Dimension: 0.079" L x 0.049" W (2.00mm x 1.25mm)
footprint RES0805 (Chip Resistor, Body 2.0x1.2mm, 0805, IPC Medium Density)
pins: 1, 2

## Ferrite_1
designator FR??, comment 600R, 2A
Manufacturer Part Number 1: MPZ2012S601AT000; Manufacturer: TDK Corporation; Part Description: FERRITE BEAD 600 OHM 0805 1LN; Filter Type: Differential Mode - Single; Impedance @ Frequency: 600 Ohm @ 100MHz; DC Resistance (DCR): 100 mOhm Max; Supplier 1: Digi-Key; Supplier Part Number 1: 445-2206-2-ND; Mounting Type: Surface Mount; RoHS: RoHS Compliant; Height (Max): 0.041" (1.05mm); Packaging: Tape & Reel (TR); Category: Filters; Current Rating: 2A; Package / Case: 0805 (2012 Metric); Size / Dimension: 0.079" L x 0.049" W (2.00mm x 1.25mm)
footprint RES0805 (Chip Resistor, Body 2.0x1.2mm, 0805, IPC Medium Density)
pins: 1, 2

## FPC_CONNECTOR_15pin_1-1734248-5
designator J??, comment FPC 15-pin
Manufacturer: TE Connectivity; Manufacturer Part Number 1: 1-1734248-5; Part Description: 15 Position FPC Connector Contacts, Vertical, 1 Sided 0.039" (1.00mm) Surface Mount; Current Rating: 1A; Voltage Rating: 125V; Gender: Receptacle; Number of Positions: 15; Shielding: Unshielded; Connector Type: Connector,Receptacle,Socket; Wire/Cable Type: Flat Flex; Connector System: Flex-to-Board; Mating Alignment: Yes (With); PCB Mount Alignment: No (Without); PCB Mount Retention: With; Circuit Application: Signal; Pitch: 1mm; Supplier 1: Digi-Key; Stock 1: 11808; Pricing 1: 1=1.03, 10=0.909, 25=0.8556, 50=0.82, 100=0.7843, 250=0.713, 500=0.6417 (USD); Mount: Surface Mount; Contact Plating: Gold; Contact Material: Bronze; Housing Colour: Black; Housing Material: Thermoplastic; Min Operating Temperature: -4°C; Max Operating Temperature: 185°C; Package Quantity: 1000; Packaging: Tape and Reel; Number of Rows: 1; Termination: SMD/SMT; Number of Contacts: 15; Orientation: Straight; Sealable: No (Without); Shrouded: Yes (With); Contact Current Rating: 1A; Length: 22.4mm; Height: 7.7mm; Width: 4.6mm; Depth: 4.6mm; REACH SVHC: Unknown; ELV: Compliant; Flammability Rating: UL94 V-0; Supplier Part Number 1: A101418DKR-ND
footprint FPC_CONNECTOR_15pin_1-1734248-5
pins: 1, 2, 3, 4, 5, 6, 7, 8, 9, 10, 11, 12, 13, 14, 15

## FUSE_1A-6V-0603
designator F??, comment SMD0603-050
6V 1A 0603 PTC Resettable Fuses RoHS; Manufacturer: TECHFUSE; Manufacturer Part Number: SMD0603-050; Case/Package: 0603; Supplier-1: LCSC
footprint RES_0603 (CASE: 0603)
pins: 1, 2

## HDR _1x6
designator J?, comment HDR FEMALE 1x6 2.54mm
06-WAY
footprint HDR_1x6_2.54mm
pins: 1, 2, 3, 4, 5, 6

## HDR_2x8
designator J?
CONN HDR FEMALE 16POS 0.1 GOLD PCB; Manufacturer: Sullins; Manufacturer Part Number: PPPC082LFBN-RC; Number of Positions: 16; Connector Type: Header; Pitch: 0.1inch; Supplier 1: Digi-Key; RoHS: Yes; Category: Connectors; Stock 1: 22838; Pricing 1: 1=1.03000, 10=0.90400, 100=0.78010, 500=0.63828, 1000=0.56736, 5000=0.51220 (USD); Mount: Through Hole; Color: Black; Contact Plating: Gold; Contact Material: Bronze; Housing Material: Plastic; Package Quantity: 1000; Number of Rows: 2; Packaging: Bulk; Termination: Solder; Contact Type: Female Socket; Length: 20.8mm; Width: 5mm; Height: 8.5mm; Row Spacing: 0.1inch; Lead Free: Lead Free; RoHS Compliant: Yes; ComponentLink1URL: https://media.digikey.com/pdf/Data%20Sheets/Sullins%20PDFs/Female_Headers.100_DS.pdf?src-supplier=Digi-Key; ComponentLink1Description: https://media.digikey.com/pdf/Data%20Sheets/Sullins%20PDFs/Female_Headers.100_DS.pdf?src-supplier=Digi-Key; ComponentLink2URL: http://www.sullinscorp.com/catalogs/101_Page80-81_HEADER_.100_2.54mm_FEMALE.pdf?src-supplier=Future+Electronics; ComponentLink2Description: http://www.sullinscorp.com/catalogs/101_Page80-81_HEADER_.100_2.54mm_FEMALE.pdf?src-supplier=Future+Electronics; Supplier Part Number 1: S7111-ND
footprint HDR_2x8
pins: 1, 2, 3, 4, 5, 6, 7, 8, 9, 10, 11, 12, 13, 14, 15, 16

## Header 2
designator TP??  (value not drawn)
Header, 2-Pin; LatestRevisionDate: 17-Jul-2002; LatestRevisionNote: Re-released for DXP Platform.; Publisher: Altium Limited
footprint HDR1X2 (Connector; Header; 2 Position)
signal-integrity model Connector
pins: 1, 2

## Header 4
designator P??
Header, 4-Pin; LatestRevisionDate: 17-Jul-2002; LatestRevisionNote: Re-released for DXP Platform.; Publisher: Altium Limited
footprint Soket_Siyah_Yakup_4_Pin
signal-integrity model Connector
pins: 1, 2, 3, 4

## HTU31
designator U??  Manufacturer Part Number 1: HTU31
SENSOR, Humidity, I2C, SMT, DFN-6 2.5mmX2.5mm; Manufacturer 1: TE Connectivity; Part Name: B39162B4353P810; Body Size: 1.4mm x 1.1mm; Current: None; Item Phase: In Production; MFG Package: QCS5P; Use in new designs: Yes; Part Number: HTU31; Height: 0.45mm; Max Operating Temp: 85; Min Operating Temp: -40; Pins: 5; Revision: 0A; Voltage: N/A; UBX Code: None
footprint HTU31 (6-DFN w/ Exposed Pad, 6 pin TE-Connectivity Humidity Sensor, .65mm pitch, 2.5mmX2.5mm)
pins: 1 SDA (io) "I2C Data Signal", 2 GND (power) "Ground", 3 IC_ADDR "Address Selection", 4 ~{RST} (in) "Active Low Reset Input", 5 VDD (power) "Power Supply", 6 SCL (in) "I2C Clock Signal"

## IC_ADS122C04IPW
designator U?, comment ADS122C04IPW
24 Bit Analog to Digital Converter 4 Input 1 Sigma-Delta 16-TSSOP; Manufacturer: Texas Instruments; Alternate Part Number-1: NA; Manufacturer Part Number: ADS122C04IPW; Case/Package: TSSOP16; Supplier-1: MOUSER; Supplier Part Number-1: ADS122C04IPW
footprint TSSOP16_25-59_294_54X14_SMT (TSOP, 16-Leads, Body 5.00x4.40mm, Pitch 0.65mm)
pins: 1 A0, 2 A1, 3 ~{RESET} (in), 4 DGND (power), 5 AVSS (power), 6 AIN3 (in), 7 AIN2 (in), 8 REFN (in), 9 REFP (in), 10 AIN1, 11 AIN0, 12 AVDD (power), 13 DVDD (power), 14 ~{DRDY} (in), 15 SDA (io), 16 SCL (in)

## IC_CH340C
designator U?, comment CH340C
USB Bridge, USB to UART USB 2.0 UART Interface; Manufacturer: Olimex; Alternate Part Number-1: NA; Manufacturer Part Number: CH340C; Case/Package: SOIC16; Supplier-1: LCSC; Supplier Part Number-1: C84681
footprint SOIC16_50_284_25X90_SMT
pins: 1 GND, 2 TXD (out), 3 RXD (in), 4 V3, 5 UD+, 6 UD-, 7 NC, 8 NC, 9 CTS#, 10 DSR#, 11 RI#, 12 DCD#, 13 DTR#, 14 RTS# (in), 15 R232, 16 VCC

## IC_CS43L22-CNZ
designator U?, comment CS43L22-CNZ
Audio D/A Converter ICs Low Power Stereo DAC w/ClassD Spkr Driver; Manufacturer: Cirrus Logic; Number of DAC Channels: 1; Resolution: 24b; Conversion Rate: 96KS/s; Output Type: Voltage; Max Supply Voltage: 2.63V; Min Supply Voltage: 1.65V; Interface: I2C,Serial; Sampling Rate: 96000S/s; Polarity: Bipolar; Supply Type: Analog,Digital; Operating Supply Voltage: 2.5V; Number of Bits: 24; Manufacturer Part Number: CS43L22-CNZ; RoHS: Yes; Category: Digital to Analog Converters (DACs); Pricing 1: 1=5.98000, 10=5.37400, 25=5.08000, 100=4.40270, 250=4.17692, 500=3.74794, 1000=3.19500 (USD); Mount: Surface Mount; Case/Package: QFN; Number of Pins: 40; Contact Plating: Tin,Matte; Min Operating Temperature: -40°C; Max Operating Temperature: 85°C; Package Quantity: 50; Packaging: Tray; Number of Converters: 1; Output Polarity: Bipolar; Series: -; Number of Channels: 1; Length: 6mm; Width: 6mm; Height: 0.95mm; RoHS Compliant: Yes; ComponentLink1URL: https://datasheet.ciiva.com/1494/91818-1494314.pdf?src-supplier=Element14; ComponentLink1Description: https://datasheet.ciiva.com/1494/91818-1494314.pdf?src-supplier=Element14; ComponentLink2URL: https://datasheet.ciiva.com/26802/cs43l22-cnz-26802243.pdf?src-supplier=IIIC; ComponentLink2Description: https://datasheet.ciiva.com/26802/cs43l22-cnz-26802243.pdf?src-supplier=IIIC; ComponentLink3URL: https://datasheet.ciiva.com/6665/cs43l22-f2-6665692.pdf?src-supplier=Digi-Key; ComponentLink3Description: https://datasheet.ciiva.com/6665/cs43l22-f2-6665692.pdf?src-supplier=Digi-Key; ComponentLink4URL: https://datasheet.ciiva.com/3040/cs43l22-f2-3040429.pdf?src-supplier=Avnet; ComponentLink4Description: https://datasheet.ciiva.com/3040/cs43l22-f2-3040429.pdf?src-supplier=Avnet; ComponentLink5URL: https://datasheet.ciiva.com/16606/cs43l22-f2-16606863.pdf?src-supplier=Avnet+Europe; ComponentLink5Description: https://datasheet.ciiva.com/16606/cs43l22-f2-16606863.pdf?src-supplier=Avnet+Europe; Supplier 1: Digi-Key; Supplier Part Number 1: 598-1650-ND
footprint QFN40_19_284_33X9_SMD
pins: 1 SDA (io), 2 SCL (in), 3 AD0, 4 SPKR_OUTA+, 5 VP, 6 SPKR_OUTA-, 7 SPKR_OUTB+, 8 VP, 9 SPKR_OUTB-, 10 -VHPFILT, 11 FLYN, 12 FLYP, 13 +VHP, 14 HP/LINE_OUTB, 15 HP/LINE_OUTA, 16 VA, 17 AGND, 18 FILT+, 19 VQ, 20 TSTO, 21 AIN4A, 22 AIN4B, 23 AIN3A, 24 AIN3B, 25 AIN2A, 26 AIN2B, 27 AFILTA, 28 AFILTB, 29 AIN1A, 30 AIN1B, 31 SPKR/HP, 32 RESET, 33 VL, 34 VD, 35 DGND, 36 TSTO, 37 MCLK, 38 SCLK, 39 SDIN, 40 LRCK, 41 DGND

## IC_DP83826IRHBR
designator U?, comment DP83826IRHBR
Ethernet MAC Controller IEEE 802.3, 10/100 Base-T/TX PHY MII, RMII Interface 32-VQFN (5x5); Manufacturer: Texas Instruments; Supplier 1: Digi-Key; Manufacturer Part Number: DP83826IRHBR; RoHS: Yes; Pricing 1: 1=2.14000, 10=1.91900, 25=1.81000, 100=1.54210, 250=1.44796, 500=1.26696, 1000=1.14061 (USD); Supplier Part Number 1: 296-DP83826IRHBRCT-ND
footprint VQFN32_19_218_23X9_SMD
pins: 1 ModeSelect, 2 CEXT, 3 VDDA3V3, 4 RD_M, 5 RD_P, 6 TD_M, 7 TD_P, 8 XO, 9 XI/50MHzIn, 10 RBIAS, 11 MDIO, 12 MDC, 13 Strap7/RX_D3 (out), 14 Strap8/RX_D2 (out), 15 Strap9/RX_D1 (out), 16 Strap0/RX_D0 (out), 17 VDDIO, 18 RX_DV/CRS_DV/Strap10 (io), 19 RX_CLK/50MHz_RMI, 20 RX_ER/Strap6 (out), 21 PWRDN/INT, 22 TX_CLK/Strap5, 23 TX_EN, 24 TX_D0, 25 TX_D1, 26 TX_D2, 27 TX_D3, 28 COL/LED2/GPIO/Strap4 (io), 29 CRS/LED3/Strap3 (io), 30 LED0/Strap2, 31 CLKOUT/LED1/Strap1, 32 RST_N, 33 GND PAD

## IC_DRV8701ERGET
designator U?, comment DRV8701ERGET
IC MOTOR DRIVER 0V-5.5V 24VQFN; Manufacturer: Texas Instruments; Supplier 1: Digi-Key; Manufacturer Part Number: DRV8701ERGET; Category: Integrated Circuits (ICs); Pricing 1: 1=2.52000, 10=2.26100, 25=2.13320, 100=1.81750 (USD); Mount: Surface Mount; Case/Package: VQFN; ComponentLink1URL: http://www.ti.com/general/docs/lit/getliterature.tsp?genericPartNumber=DRV8701&&fileType=pdf&src-supplier=Avnet; ComponentLink1Description: http://www.ti.com/general/docs/lit/getliterature.tsp?genericPartNumber=DRV8701&&fileType=pdf&src-supplier=Avnet; ComponentLink2URL: http://www.ti.com/lit/ds/symlink/drv8701.pdf?src-supplier=Digi-Key; ComponentLink2Description: http://www.ti.com/lit/ds/symlink/drv8701.pdf?src-supplier=Digi-Key
footprint QFN50P400X400X100-25N
pins: 1 VM, 2 VCP, 3 CPH, 4 CPL, 5 GND (power), 6 VREF, 7 AVDD (power), 8 DVDD (power), 9 NFAULT (out), 10 SNSOUT (out), 11 SO (out), 12 IDRIVE, 13 NSLEEP, 14 EN, 15 PH, 16 GND (power), 17 GH1, 18 SH1, 19 GL1, 20 SN, 21 SP, 22 GL2, 23 SH2, 24 GH2, 25 PAD (power)

## IC_IMP34DT05TR
designator U?, comment IMP34DT05TR
MEMS Microphones AUTO & INDUSTRIAL SENSORS; Manufacturer: STMicroelectronics; Alternate Part Number-1: NA; Manufacturer Part Number: IMP34DT05TR; Case/Package: HCLGA-4; Supplier-1: Mouser; Supplier Part Number-1: 511-IMP34DT05TR
footprint HCLGA-4_53_137_15X37_SMD
pins: 1 VDD, 2 L/R, 3 CLK (in), 4 DOUT (out), 5 GND

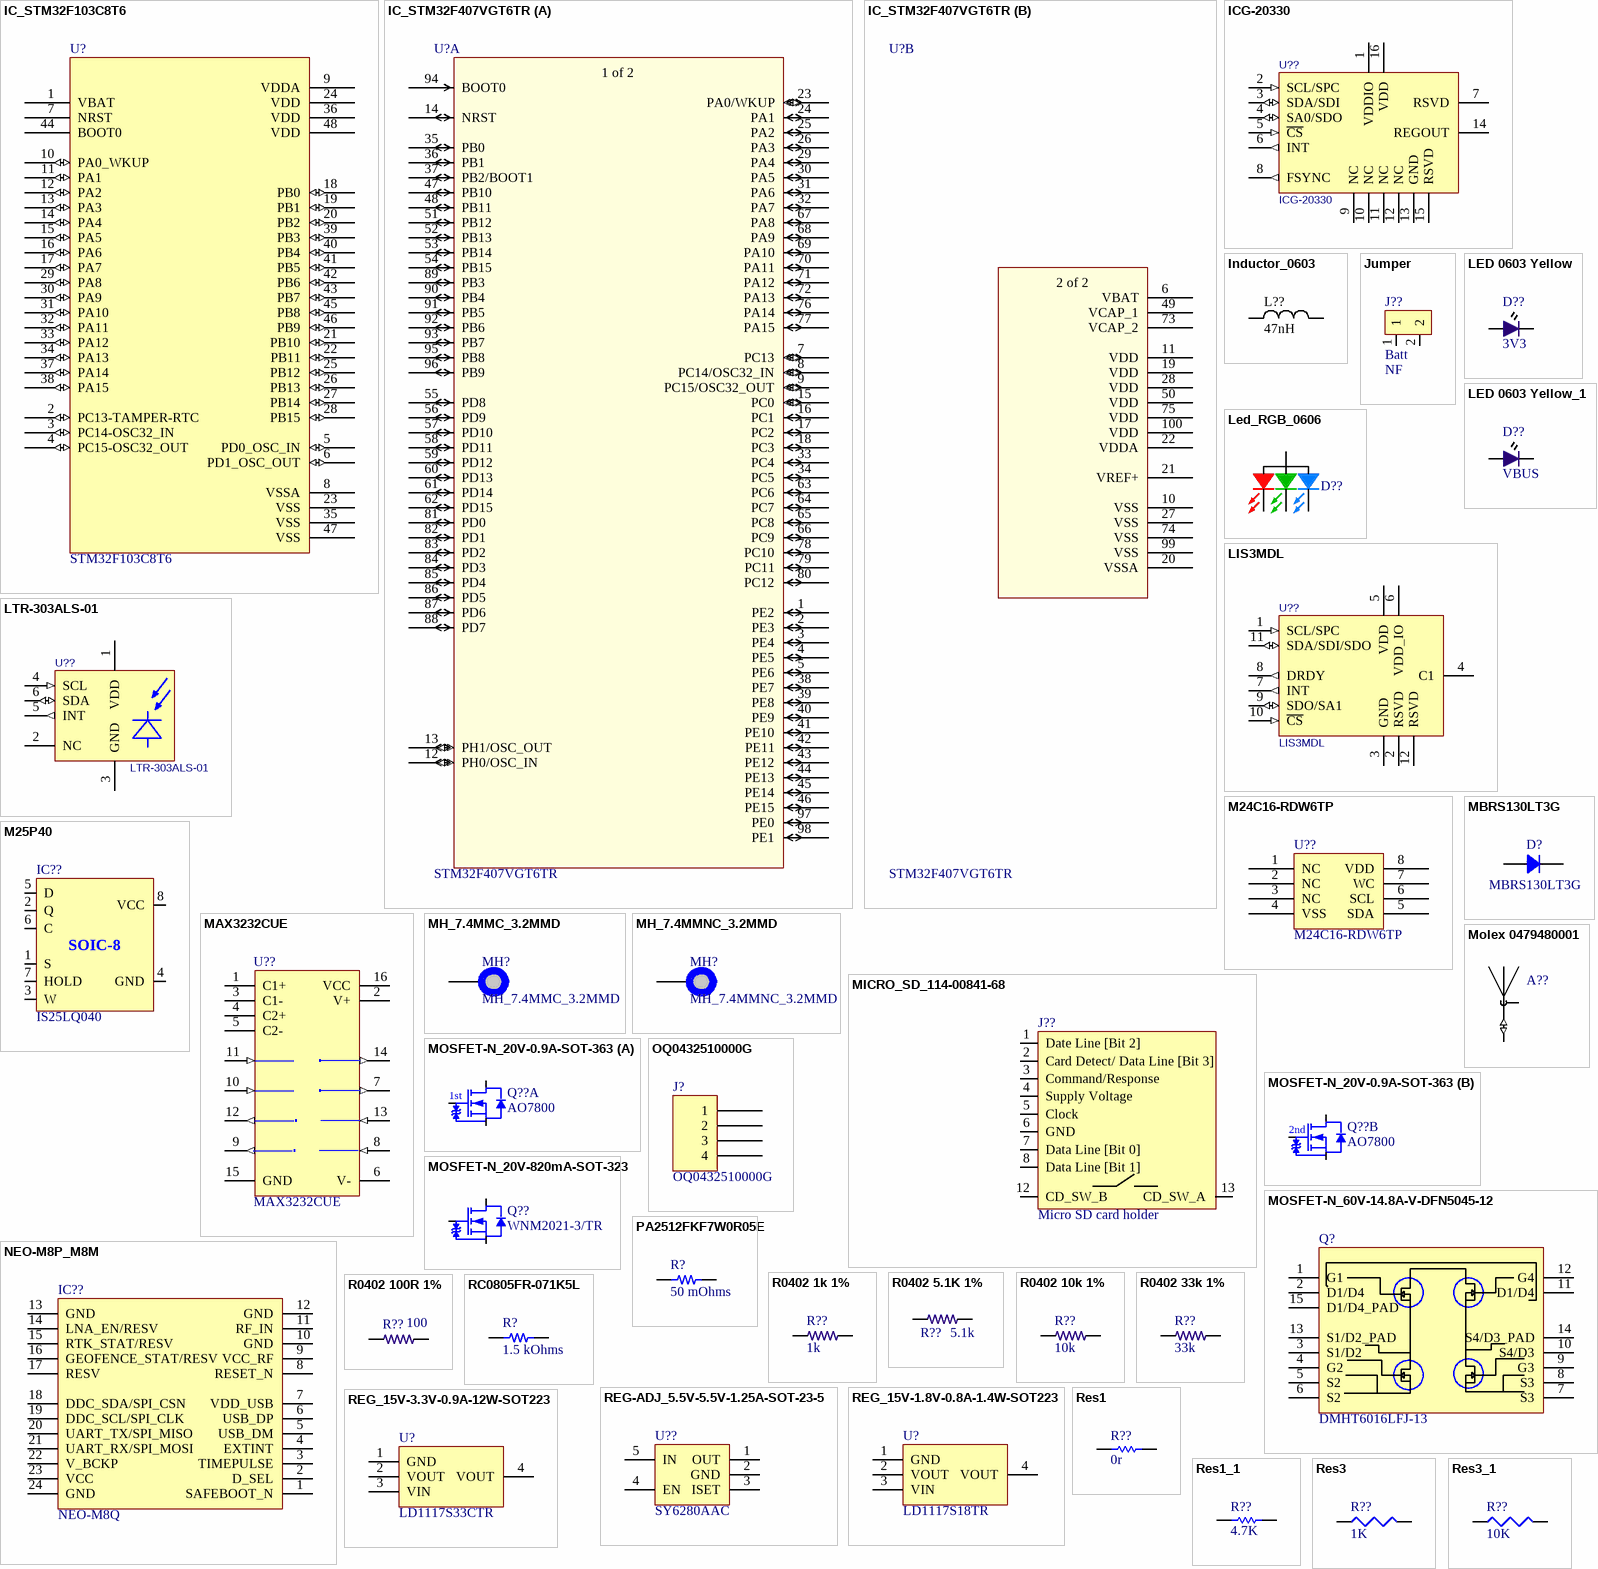
[diagram p3: symbols IC_STM32F103C8T6 to Res3_1]

## IC_STM32F103C8T6
designator U?, comment STM32F103C8T6
STMICROELECTRONICS - STM32F103C8T6 - ARM MCU, Motor Control, STM32 Family STM32F1 Series Microcontrollers, ARM Cortex-M3, 32bit, 72 MHz; Number of I/Os: 37; Supplier 1: Digi-Key; Manufacturer: STMicroelectronics; Manufacturer Part Number: STM32F103C8T6; Category: Microcontrollers; Pricing 1: 1=5.95000, 10=5.34300, 25=5.05120, 80=4.37763, 250=4.15316, 500=3.72664, 1000=3.27390 (USD); Case/Package: LQFP; Number of Pins: 48; ComponentLink1URL: https://datasheet.ciiva.com/15122/getdatasheetpartid-69880-15122076.pdf?src-supplier=Verical; ComponentLink1Description: https://datasheet.ciiva.com/15122/getdatasheetpartid-69880-15122076.pdf?src-supplier=Verical; ComponentLink2URL: https://datasheet.ciiva.com/26816/stm32f103c8t6-26816902.pdf?src-supplier=IIIC; ComponentLink2Description: https://datasheet.ciiva.com/26816/stm32f103c8t6-26816902.pdf?src-supplier=IIIC; ComponentLink3URL: https://datasheet.ciiva.com/16210/cd00161566-16210248.pdf?src-supplier=Future+Electronics; ComponentLink3Description: https://datasheet.ciiva.com/16210/cd00161566-16210248.pdf?src-supplier=Future+Electronics; ComponentLink4URL: https://datasheet.ciiva.com/14100/pustm-arm-microcont-stm32f103-en-14100508.pdf?src-supplier=Distrelec; ComponentLink4Description: https://datasheet.ciiva.com/14100/pustm-arm-microcont-stm32f103-en-14100508.pdf?src-supplier=Distrelec; ComponentLink5URL: https://datasheet.ciiva.com/8054/1730126-8054942.pdf?src-supplier=Element14; ComponentLink5Description: https://datasheet.ciiva.com/8054/1730126-8054942.pdf?src-supplier=Element14; ComponentLink6URL: https://datasheet.ciiva.com/48687/001075658-da-01-en-mcu-64kb-mem-stm32f103c8t6-lqfp-48-stm-48687589.pdf?src-supplier=Conrad; ComponentLink6Description: https://datasheet.ciiva.com/48687/001075658-da-01-en-mcu-64kb-mem-stm32f103c8t6-lqfp-48-stm-48687589.pdf?src-supplier=Conrad
footprint LQFP-48_SMD
pins: 1 VBAT, 2 PC13-TAMPER-RTC (io), 3 PC14-OSC32_IN (io), 4 PC15-OSC32_OUT (io), 5 PD0_OSC_IN (io), 6 PD1_OSC_OUT (io), 7 NRST, 8 VSSA (power), 9 VDDA (power), 10 PA0_WKUP (io), 11 PA1 (io), 12 PA2 (io), 13 PA3 (io), 14 PA4 (io), 15 PA5 (io), 16 PA6 (io), 17 PA7 (io), 18 PB0 (io), 19 PB1 (io), 20 PB2 (io), 21 PB10 (io), 22 PB11 (io), 23 VSS (power), 24 VDD (power), 25 PB12 (io), 26 PB13 (io), 27 PB14 (io), 28 PB15 (io), 29 PA8 (io), 30 PA9 (io), 31 PA10 (io), 32 PA11 (io), 33 PA12 (io), 34 PA13 (io), 35 VSS (power), 36 VDD (power), 37 PA14 (io), 38 PA15 (io), 39 PB3 (io), 40 PB4 (io), 41 PB5 (io), 42 PB6 (io), 43 PB7 (io), 44 BOOT0, 45 PB8 (io), 46 PB9 (io), 47 VSS (power), 48 VDD (power)

## IC_STM32F407VGT6TR
designator U?, comment STM32F407VGT6TR
STM32F Series 1 MB Flash 192 kB RAM ARM Based 32-Bit Microcontroller - LQFP-100; Manufacturer: STMicroelectronics; Number of I/Os: 82; Supplier 1: Digi-Key; Manufacturer Part Number: STM32F407VGT6TR; Category: Microcontrollers; Pricing 1: 1=13.51000, 10=12.41300, 25=11.89840, 100=10.48360, 250=9.96904, 500=9.37948 (USD); Case/Package: LQFP; Number of Pins: 100; Packaging: Tape and Reel; ComponentLink1URL: https://datasheet.ciiva.com/46384/1719442-46384038.pdf?src-supplier=Element14; ComponentLink1Description: https://datasheet.ciiva.com/46384/1719442-46384038.pdf?src-supplier=Element14; ComponentLink2URL: https://datasheet.ciiva.com/29719/dm00037051-29719319.pdf?src-supplier=Digi-Key; ComponentLink2Description: https://datasheet.ciiva.com/29719/dm00037051-29719319.pdf?src-supplier=Digi-Key; ComponentLink3URL: https://datasheet.ciiva.com/22692/1719442-22692042.pdf?src-supplier=Element14; ComponentLink3Description: https://datasheet.ciiva.com/22692/1719442-22692042.pdf?src-supplier=Element14; ComponentLink4URL: https://datasheet.ciiva.com/12270/dm00037051-492832-12270799.pdf?src-supplier=Mouser; ComponentLink4Description: https://datasheet.ciiva.com/12270/dm00037051-492832-12270799.pdf?src-supplier=Mouser; Supplier Part Number 1: 497-17437-6-ND
footprint QFN100_19.6_669_58X10_SMD
part A pins: 1 PE2, 2 PE3, 3 PE4, 4 PE5, 5 PE6, 7 PC13 (io), 8 PC14/OSC32_IN (io), 9 PC15/OSC32_OUT (io), 12 PH0/OSC_IN (io), 13 PH1/OSC_OUT (io), 14 NRST, 15 PC0 (io), 16 PC1, 17 PC2, 18 PC3, 23 PA0/WKUP (io), 24 PA1, 25 PA2, 26 PA3, 29 PA4, 30 PA5, 31 PA6, 32 PA7, 33 PC4, 34 PC5, 35 PB0, 36 PB1, 37 PB2/BOOT1, 38 PE7, 39 PE8, 40 PE9, 41 PE10, 42 PE11, 43 PE12, 44 PE13, 45 PE14, 46 PE15, 47 PB10, 48 PB11, 51 PB12, 52 PB13, 53 PB14, 54 PB15, 55 PD8, 56 PD9, 57 PD10, 58 PD11, 59 PD12, 60 PD13, 61 PD14, 62 PD15, 63 PC6, 64 PC7, 65 PC8, 66 PC9, 67 PA8, 68 PA9, 69 PA10, 70 PA11, 71 PA12, 72 PA13, 76 PA14, 77 PA15, 78 PC10, 79 PC11, 80 PC12, 81 PD0, 82 PD1, 83 PD2, 84 PD3, 85 PD4, 86 PD5, 87 PD6, 88 PD7, 89 PB3, 90 PB4, 91 PB5, 92 PB6, 93 PB7, 94 BOOT0, 95 PB8, 96 PB9, 97 PE0, 98 PE1
part B pins: 6 VBAT (power), 10 VSS (power), 11 VDD (power), 19 VDD (power), 20 VSSA (power), 21 VREF+ (power), 22 VDDA (power), 27 VSS (power), 28 VDD (power), 49 VCAP_1 (power), 50 VDD (power), 73 VCAP_2 (power), 74 VSS (power), 75 VDD (power), 99 VSS (power), 100 VDD (power)
part A text: 1 of 2
part B text: 2 of 2

## ICG-20330
designator U??  Manufacturer Part Number 1: ICG-20330
SENSOR, Gyroscope, I2C, 3-AXIS, 1.7-3.45V, SMT, LGA-16, 3mmX3mm; Manufacturer 1: TDK InvenSense; Part Name: LIS3MDL; Body Size: 2mm x 2mm; Current: None; Item Phase: In Production; MFG Package: LGA-12; Use in new designs: Yes; Voltage: 1.9-3.6V; Part Number: ICG-20330; Height: 1mm; Max Operating Temp: 85; Min Operating Temp: -40; Pins: 12; Revision: 0A; UBX Code: None
footprint ICG-20330 (LGA 0.5mm Pitch, 3x3, 16 Pin, 3.0mm x 3.0mm)
pins: 1 VDDIO (power) "Digital I/O supply voltage", 2 SCL/SPC (in) "I2C serial clock (SCL); SPI serial clock (SPC)", 3 SDA/SDI (io) "I2C serial data (SDA); SPI serial data input (SDI)", 4 SA0/SDO (io) "I2C slave address LSB (SA0); SPI serial data output (SDO)", 5 ~{CS} (in) "Chip select (0 = SPI mode; 1 = I2C mode)", 6 INT (out) "Interrupt digital output (totem pole or open-drain)", 7 RSVD "Reserved. Do Not Connect.", 8 FSYNC (out) "Synchronization digital input (optional).  Connect to GND if unused.", 9 NC "Connect to GND or do not connect", 10 NC "Connect to GND or do not connect", 11 NC "Connect to GND or do not connect", 12 NC "Connect to GND or do not connect", 13 GND (power) "Connect to GND", 14 REGOUT "Regulator filter capacitor connection", 15 RSVD "Reserved. Connect to GND", 16 VDD (power) "Power Supply"

## Inductor_0603
designator L??, comment 47nH
Manufacturer: COILCRAFT; Manufacturer Part Number: 0402HP-47NXJLU; Part Description: COILCRAFT  0402HP-47NXJLU  Surface Mount High Frequency Inductor, 0402HP Series, 47 nH, 420 mA, 0402 [1005 Metric], Wirewound; SVHC: No SVHC (15-Jun-2015); Inductance Tolerance: ± 5%; High Frequency Inductor Case: 0402 [1005 Metric]; Inductor Case Style: 0402 [1005 Metric]<!--FANDB--><div class="features-and-benefits-container"></div>; Inductance: 47; DC Resistance Max: 0.58; Self Resonant Frequency Min: 2.4; Product Range: 0402; DC Current Rating: 420; Inductor Construction: Wirewound; Supplier 1: Farnell; Supplier Part Number 1: 2285856; Packaging: Cut Tape; RoHS: Y-EX; value: 47nH; Manufacturer Part Number 1: 0402HP-47NXJLU
footprint RES0402 (Chip Resistor, Body 1.0x0.5mm, EIA 0402, IPC Medium Density)
pins: 1, 2

## Jumper
designator J??, comment Batt  Assembly Info: NF
Manufacturer Part Number 1: 961102-6404-AR; Part Description: 2 Positions Header, Unshrouded Connector 0.100" (2.54mm) Through Hole Gold; Manufacturer: 3M; Connector Type: Header, Unshrouded; Supplier 1: Digi-Key; Supplier Part Number 1: 3M9447-ND; Contact Type: Male Pin; Color: Black; Mounting Type: Through Hole; Category: Connectors, Interconnects; Contact Finish: Gold
footprint HDR_1x2
pins: 1, 2

## LED 0603 Yellow
designator D??, comment 3V3
LED YELLOW CLEAR 0603 SMD; Supplier 1: Digi-Key; Supplier Part Number 1: 732-4981-1-ND
footprint LED0603-IPC
pins: A, K

## LED 0603 Yellow_1
designator D??, comment VBUS
LED YELLOW CLEAR 0603 SMD; Supplier 1: Digi-Key; Supplier Part Number 1: 732-4981-1-ND
footprint LED0603-IPC
pins: A, K

## Led_RGB_0606
designator D??, comment RGB  (value not drawn)
RGB Led 1.6 x 1.6 mm Diffused; Manufacturer: Everlight; Manufacturer Part Number: 19-237/R6GHBHW-C01/2T; Supplier 1: Digi-Key; Supplier Part Number 1: 1080-1590-1-ND
footprint LED_0606_RGB_WURTH (Chip; Body 1.6 x 1.6 mm (LxW typ) WURTH)
footprint LED_0606_RGB_WURTH - Reverse Mount (Chip; Body 1.6 x 1.6 mm (LxW typ) WURTH)
pins: A, BK, GK, RK

## LIS3MDL
designator U??  Manufacturer Part Number 1: LIS3MDL
SENSOR, MAGNETOMETER, I2C, 3-AXIS, 1.9-3.6V, SMT, LGA-12, 2mmX2mm; Manufacturer 1: ST Micro; Current: None; Item Phase: In Production; Use in new designs: Yes; Part Number: LIS3MDL; Body Size: 2mm x 2mm; Height: 1mm; MFG Package: LGA-12; Max Operating Temp: 85; Min Operating Temp: -40; Part Name: LIS3MDL; Pins: 12; Revision: 0A; Voltage: 1.9-3.6V; UBX Code: None
footprint LIS3MDL (LGA 0.5mm Pitch, 4x4 w/shared corners, 12 Pin, 2.0mm x 2.0mm)
pins: 1 SCL/SPC (in) "Serial Clock Input", 2 RSVD "Reserved, Connect to Ground", 3 GND (power), 4 C1 "Connect to 100nF capacitor", 5 VDD (power) "Power Supply In", 6 VDD_IO (power) "Power Supply for I/O", 7 INT (out) "Interrupt Output", 8 DRDY (out) "Data Ready Output", 9 SDO/SA1 (io) "SPI serial data output (SDO)I2C less significant bit of the device address (SA1", 10 ~{CS} (in) "Chip Select", 11 SDA/SDI/SDO (io) "Serial Data", 12 RSVD "Reserved, Connect to Ground"

## LTR-303ALS-01
designator U??  Manufacturer Part Number 1: LTR-303ALS-01
SENSOR, AMBIENT LIGHT, I2C, SMT, GNSS, DFN-6 2mmX2mm; Manufacturer 1: Lite-On; Part Name: B39162B4353P810; Body Size: 1.4mm x 1.1mm; Current: None; Item Phase: In Production; MFG Package: QCS5P; Use in new designs: Yes; Part Number: LTR-303ALS-01; Height: 0.45mm; Max Operating Temp: 85; Min Operating Temp: -40; Pins: 5; Revision: 0A; Voltage: N/A; UBX Code: None
footprint LTR-303ALS-01 (6-VFDFN, 6 pin Lite-ON Light Sensor, .65mm pitch, 2mmX2mm)
pins: 1 VDD (power) "Power Supply", 2 NC "No Connection", 3 GND (power) "Ground", 4 SCL (in) "I2C Clock Signal", 5 INT (out) "Open Drain Interrupt Output", 6 SDA (io) "I2C Data Signal"

## M24C16-RDW6TP
designator U??
IC EEPROM 16KBIT 400KHZ 8TSSOP; Digi-Key Part Number: 497-8639-1-ND; Manufacturer Part Number: M24C16-RDW6TP
footprint TSSOP8
pins: 1 NC, 2 NC, 3 NC, 4 VSS, 5 SDA, 6 SCL, 7 WC, 8 VDD